# Altium footprint library CON-PIN-X3-CORTO.PcbLib: 1 footprints
Each footprint in its own frame and in the unit in brackets; x right, y up, seen from the top. Pads: shape width x height; smd on the part's side, far side on the other; paste and mask are expansions set on the pad; w line width, h text height; cw(c..) or ccw(c..) is an arc to the next point about the centre after c.
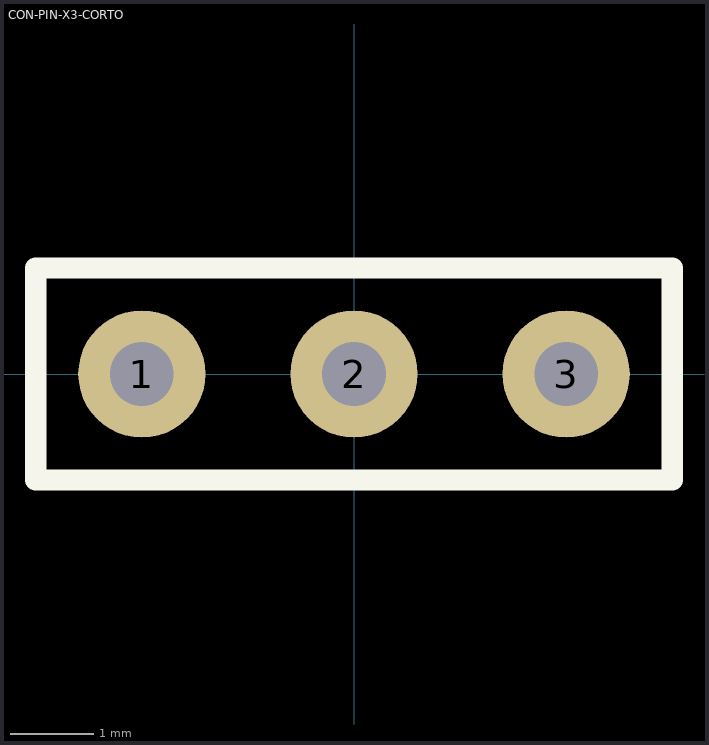
[diagram p0: the footprint, top view; thin cyan lines are the x and y axes]

## CON-PIN-X3-CORTO [mil] "POSTE RECTO 40C SF P=2.54MM 201-S140"
pads (3):
  round 60 hole 30: 1(-100,0) 2(0,0) 3(100,0)
Top Overlay:
  lines w10: -150,-50 150,-50 150,50 -150,50 -150,-50
3D body "CON-PIN-CORTO.step": height 375.59, standoff -118.11, extent -49.21,-48.43 49.21,50
3D body "CON-PIN-CORTO.step": height 375.59, standoff -118.11, extent 50.79,-48.43 149.21,50
3D body "CON-PIN-CORTO.step": height 375.59, standoff -118.11, extent -149.21,-48.43 -50.79,50